# Altium schematic symbol library LAB_Library.schlib: 43 symbols
Pins are listed as number, name and electrical type; pins without a type are passive.

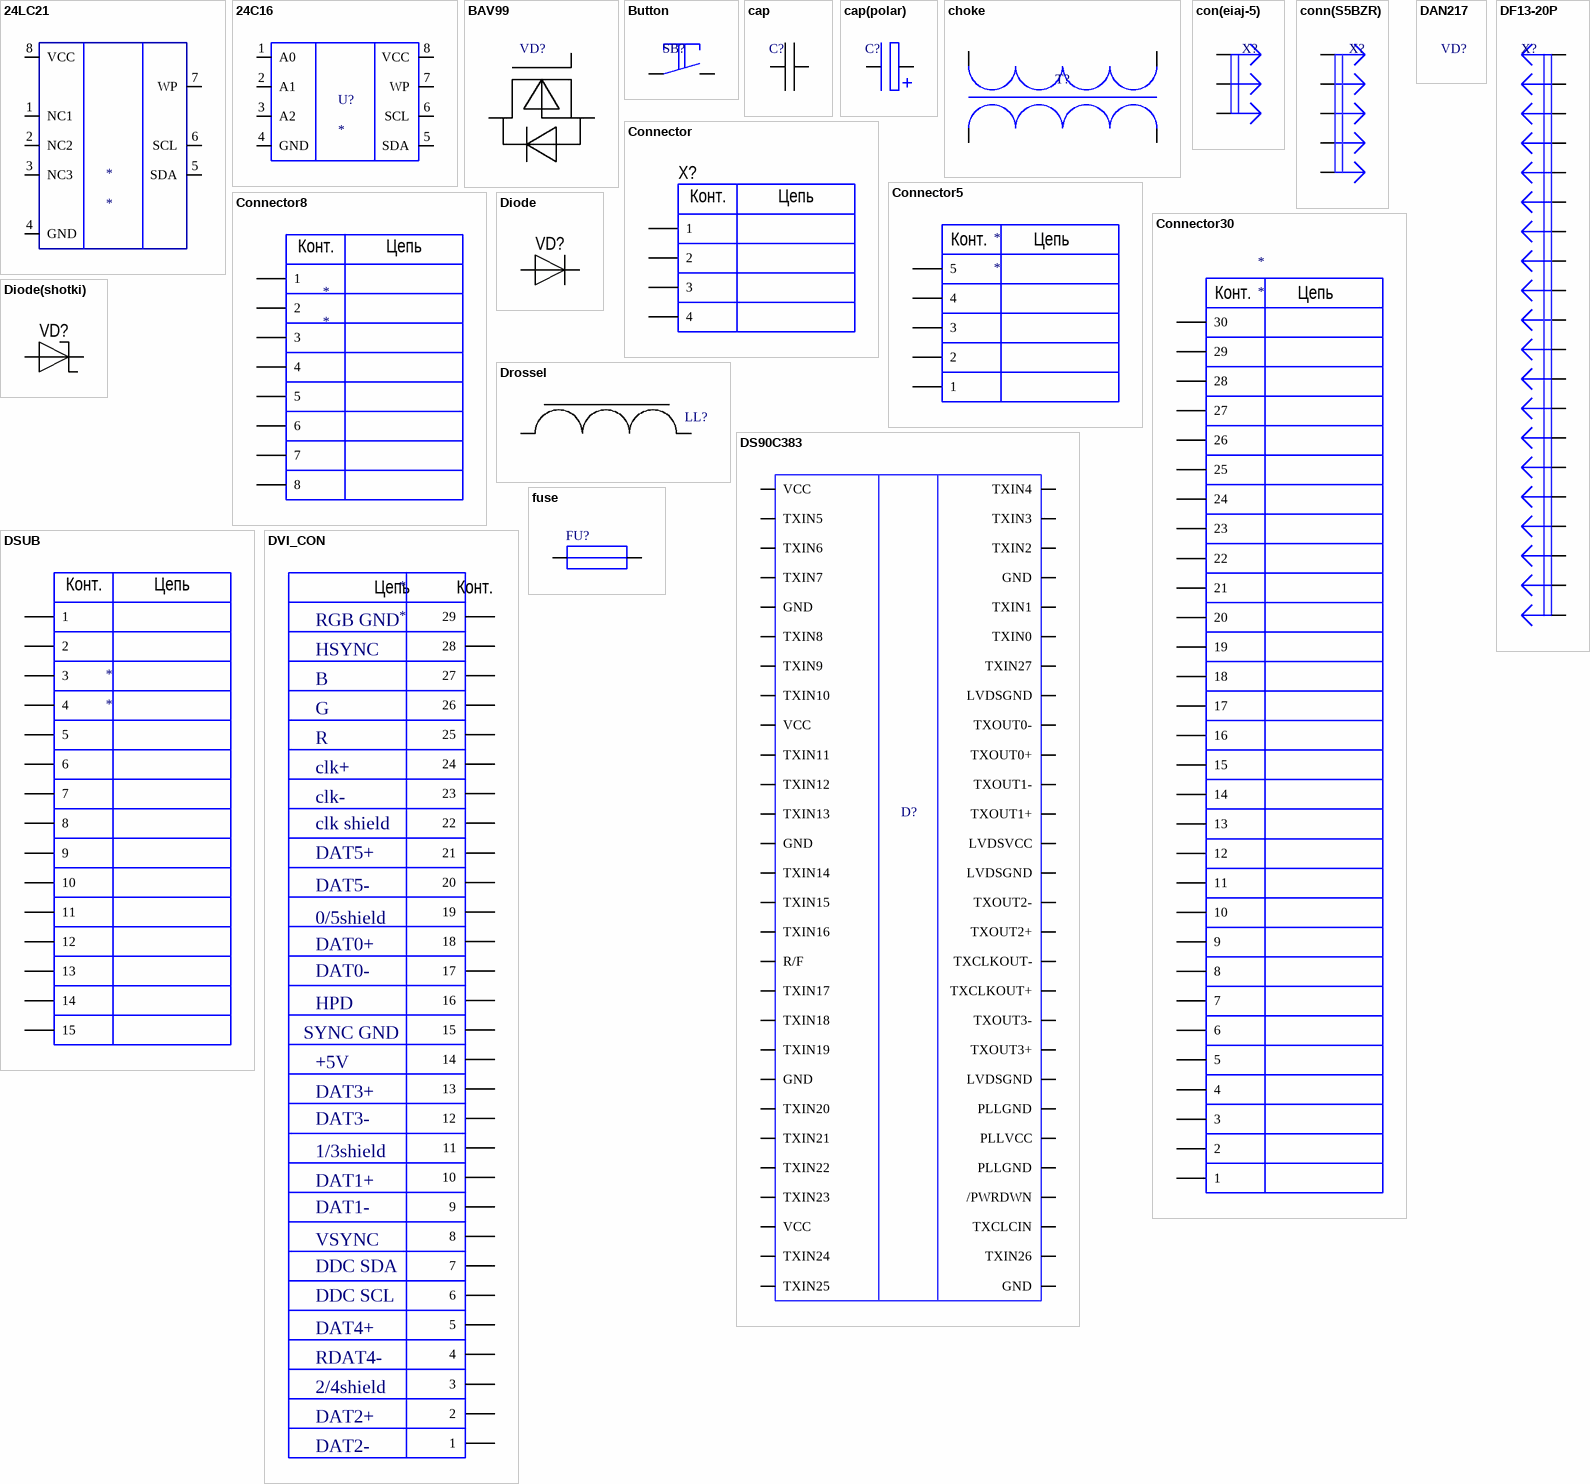
[diagram p0: symbols 24LC21 to fuse]

## 24LC21
designator *
pins: 1 NC1, 2 NC2, 3 NC3, 4 GND, 5 SDA, 6 SCL, 7 WP, 8 VCC

## 24С16
designator U?
pins: 1 A0, 2 A1, 3 A2, 4 GND, 5 SDA, 6 SCL, 7 WP, 8 VCC

## BAV99
designator VD?  (value not drawn)
pins: 1, 2, 3

## Button
designator SB?  (value not drawn)
footprint Button1
pins: 1, 2

## cap
designator C?  (value not drawn)
footprint cap(0603)
footprint cap(0805)1UF
footprint cap(1206)10UF
pins: 1, 2

## cap(polar)
designator C?  (value not drawn)
footprint cap(ELECT-CA100UF)
footprint cap(ELECT-CA220UF)
pins: 1, 2

## choke
designator T?  (value not drawn)
footprint choke(SC-20-D010)
pins: 1, 2, 3, 4

## con(eiaj-5)
designator X?  (value not drawn)
footprint con(eiaj-5)
pins: 1, 2, 3

## conn(S5BZR)
designator X?  (value not drawn)
footprint conn(S5BZR) (Footprint not found)
pins: 1, 2, 3, 4, 5

## Connector
designator X?  (value not drawn)
footprint conn4
pins: 1, 2, 3 (power), 4 (power)
text: Конт.; Цепь

## Connector5
designator *
pins: 1, 2, 3 (power), 4 (power), 5 (power)
text: Конт.; Цепь

## Connector8
designator *
pins: 1, 1 5, 2, 2 6, 3 (power), 3 7 (power), 4 (power), 4 8 (power)
text: Конт.; Цепь

## Connector30
designator *
pins: 1, 2, 3 (power), 4 (power), 5 (power), 6, 7, 8 (power), 9 (power), 10 (power), 11, 12, 13 (power), 14 (power), 15 (power), 16, 17, 18 (power), 19 (power), 20 (power), 21, 22, 23 (power), 24 (power), 25 (power), 26, 27, 28 (power), 29 (power), 30 (power)
text: Конт.; Цепь

## DAN217
designator VD?  (value not drawn)

## DF13-20P
designator X?  (value not drawn)
footprint DF13-20P
pins: 1, 2, 3, 4, 5, 6, 7, 8, 9, 10, 11, 12, 13, 14, 15, 16, 17, 18, 19, 20

## Diode
designator VD?  (value not drawn)
footprint DIODE
footprint DIODE(RLS4148)
pins: 1, 2

## Diode(shotki)
designator VD?  (value not drawn)
footprint Diode(shotki) (Footprint not found)
footprint Diode(shotki SK-24)
pins: 1, 2

## Drossel
designator LL?  (value not drawn)
footprint dros (SODFL, 2-Leads, Body 6,00x13,20mm, IPC Medium Density)
pins: 1, 2

## DS90C383
designator D?  (value not drawn)
footprint DS90C383
pins: 1 VCC, 2 TXIN5, 3 TXIN6, 4 TXIN7, 5 GND, 6 TXIN8, 7 TXIN9, 8 TXIN10, 9 VCC, 10 TXIN11, 11 TXIN12, 12 TXIN13, 13 GND, 14 TXIN14, 15 TXIN15, 16 TXIN16, 17 R/F, 18 TXIN17, 19 TXIN18, 20 TXIN19, 21 GND, 22 TXIN20, 23 TXIN21, 24 TXIN22, 25 TXIN23, 26 VCC, 27 TXIN24, 28 TXIN25, 29 GND, 30 TXIN26, 31 TXCLCIN, 32 /PWRDWN, 33 PLLGND, 34 PLLVCC, 35 PLLGND, 36 LVDSGND, 37 TXOUT3+, 38 TXOUT3-, 39 TXCLKOUT+, 40 TXCLKOUT-, 41 TXOUT2+, 42 TXOUT2-, 43 LVDSGND, 44 LVDSVCC, 45 TXOUT1+, 46 TXOUT1-, 47 TXOUT0+, 48 TXOUT0-, 49 LVDSGND, 50 TXIN27, 51 TXIN0, 52 TXIN1, 53 GND, 54 TXIN2, 55 TXIN3, 56 TXIN4

## DSUB
designator *
pins: 1, 1 5, 1 9, 1 13, 2, 2 6, 2 10, 2 14, 3 (power), 3 7 (power), 3 11 (power), 3 15 (power), 4 (power), 4 8 (power), 4 12 (power)
text: Конт.; Цепь

## DVI_CON
designator *
pins: 1, 2, 3 (power), 4 (power), 5 (power), 6, 7, 8 (power), 9 (power), 10 (power), 11, 12, 13 (power), 14 (power), 15 (power), 16, 17, 18 (power), 19 (power), 20 (power), 21, 22, 23 (power), 24 (power), 25 (power), 26, 27, 28 (power), 29 (power)
text: Цепь; Конт.; RGB GND; HSYNC; B; G; R; clk+; clk-; clk shield; DAT5+; DAT5-; 0/5shield; DAT0+; DAT0-; HPD; SYNC GND; +5V; DAT3+; DAT3-; 1/3shield; DAT1+; DAT1-; VSYNC; DDC SDA; DDC SCL; DAT4+; RDAT4-; 2/4shield; DAT2+; DAT2-

## fuse
designator FU?  (value not drawn)
footprint fuse(5A)
footprint fuse(1.5A)
footprint fuse(2.5A)
pins: 1, 2

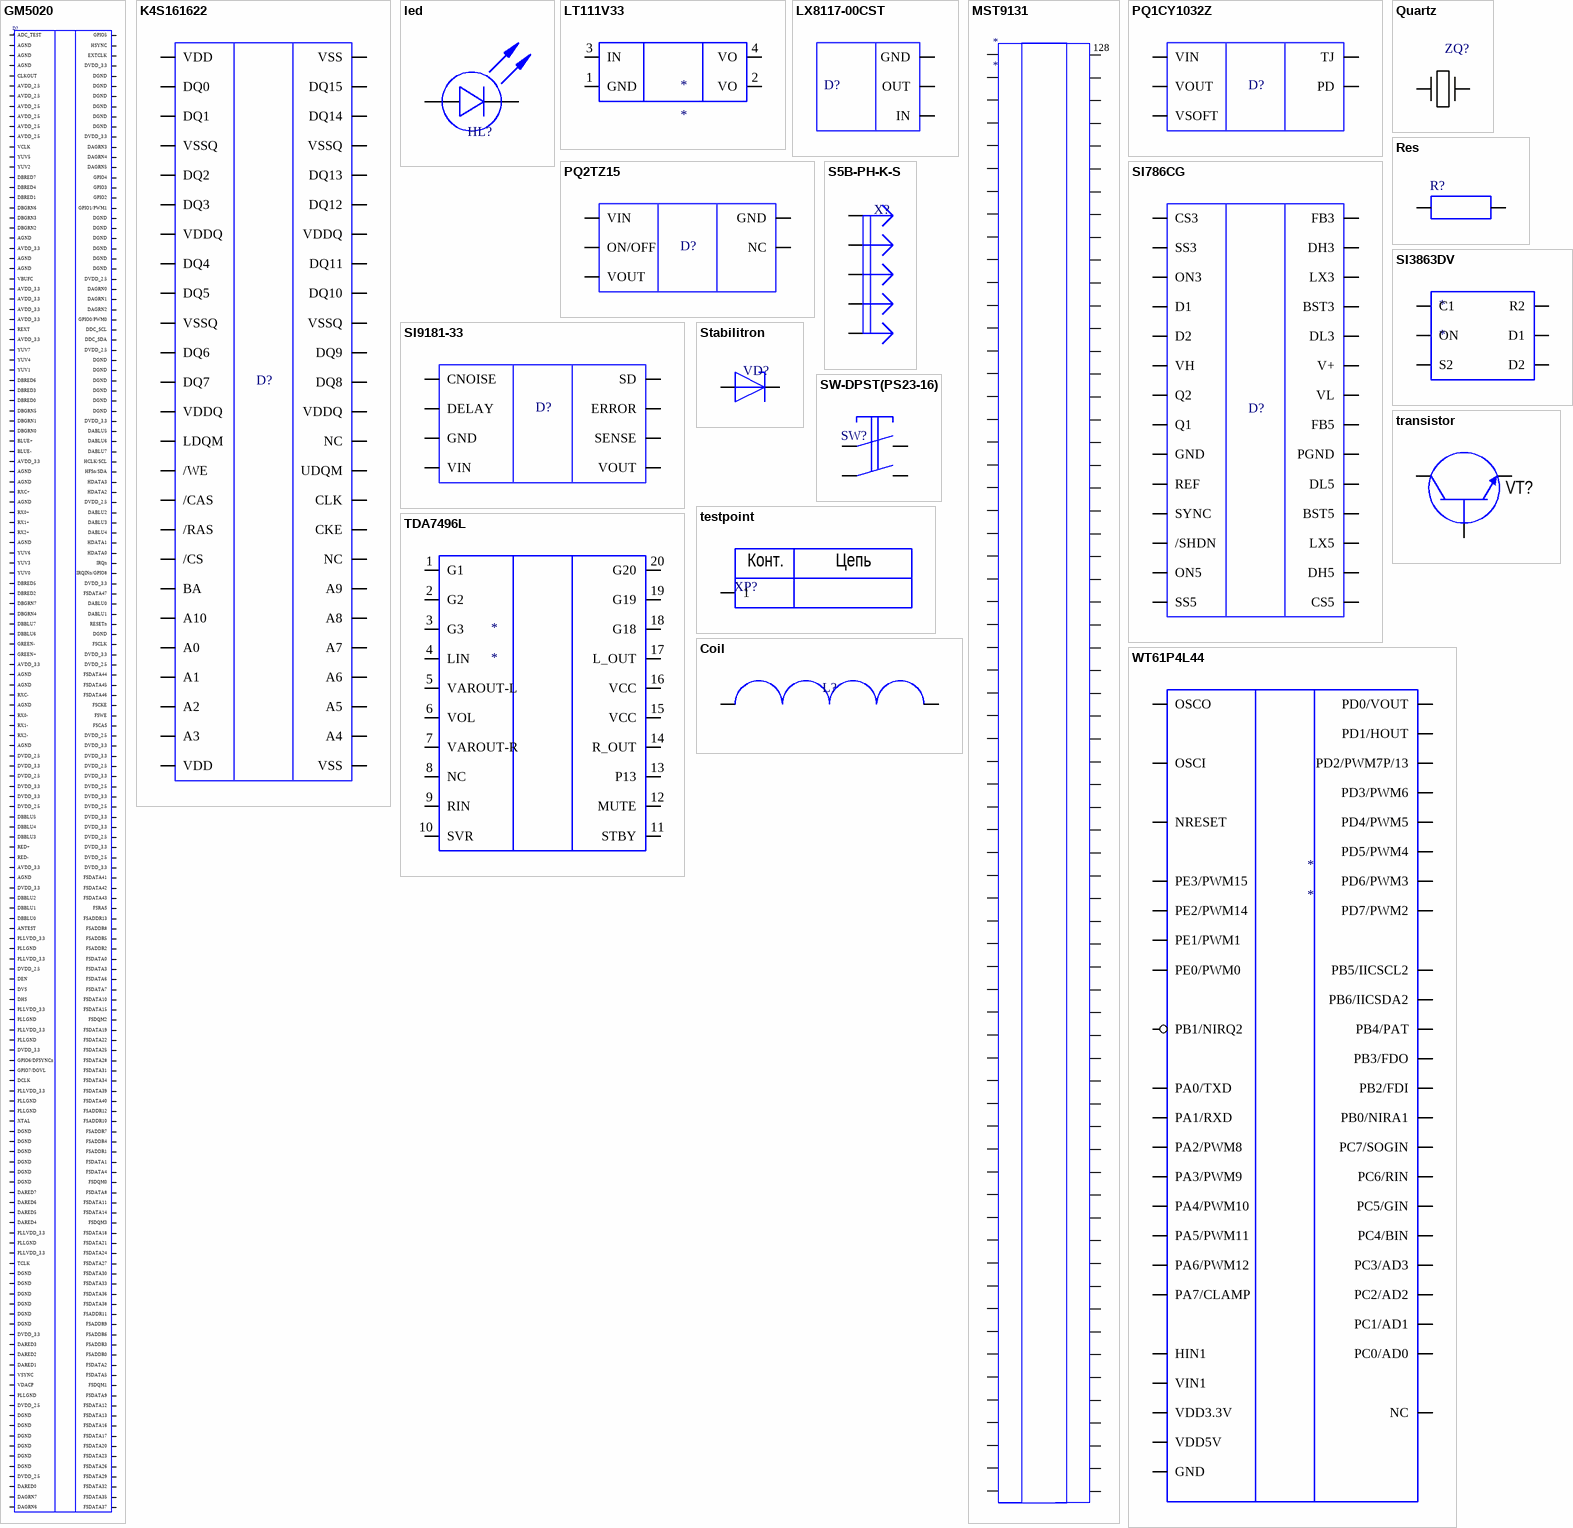
[diagram p1: symbols GM5020 to Сoil]

## GM5020
designator D?
footprint GM5020 (Footprint not found)
pins: A1 ADC_TEST, A2 AGND, A3 AGND, A4 AGND, A5 CLKOUT, A6 AVDD_2.5, A7 AVDD_2.5, A8 AVDD_2.5, A9 AVDD_2.5, A10 AVDD_2.5, A11 AVDD_2.5, A12 VCLK, A13 YUV5, A14 YUV2, A15 DBRED7, A16 DBRED4, A17 DBRED1, A18 DBGRN6, A19 DBGRN3, A20 DBGRN2, B1 AGND, B2 AVDD_3.3, B3 AGND, B4 AGND, B5 VBUFC, B6 AVDD_3.3, B7 AVDD_3.3, B8 AVDD_3.3, B9 AVDD_3.3, B10 REXT, B11 AVDD_3.3, B12 YUV7, B13 YUV4, B14 YUV1, B15 DBRED6, B16 DBRED3, B17 DBRED0, B18 DBGRN5, B19 DBGRN1, B20 DBGRN0, C1 BLUE+, C2 BLUE-, C3 AVDD_3.3, C4 AGND, C5 AGND, C6 RXC+, C7 AGND, C8 RX0+, C9 RX1+, C10 RX2+, C11 AGND, C12 YUV6, C13 YUV3, C14 YUV0, C15 DBRED5, C16 DBRED2, C17 DBGRN7, C18 DBGRN4, C19 DBBLU7, C20 DBBLU6, D1 GREEN-, D2 GREEN+, D3 AVDD_3.3, D4 AGND, D5 AGND, D6 RXC-, D7 AGND, D8 RX0-, D9 RX1-, D10 RX2-, D11 AGND, D12 DVDD_2.5, D13 DVDD_3.3, D14 DVDD_2.5, D15 DVDD_3.3, D16 DVDD_3.3, D17 DVDD_2.5, D18 DBBLU5, D19 DBBLU4, D20 DBBLU3, E1 RED+, E2 RED-, E3 AVDD_3.3, E4 AGND, E17 DVDD_3.3, E18 DBBLU2, E19 DBBLU1, E20 DBBLU0, F1 ANTEST, F2 PLLVDD_3.3, F3 PLLGND, F4 PLLVDD_3.3, F17 DVDD_2.5, F18 DEN, F19 DVS, F20 DHS, G1 PLLVDD_3.3, G2 PLLGND, G3 PLLVDD_3.3, G4 PLLGND, G17 DVDD_3.3, G18 GPIO6/DFSYNCn, G19 GPIO7/DOVL, G20 DCLK, H1 PLLVDD_3.3, H2 PLLGND, H3 PLLGND, H4 XTAL, H8 DGND, H9 DGND, H10 DGND, H11 DGND, H12 DGND, H13 DGND, H17 DARED7, H18 DARED6, H19 DARED5, H20 DARED4, J1 PLLVDD_3.3, J2 PLLGND, J3 PLLVDD_3.3, J4 TCLK, J8 DGND, J9 DGND, J10 DGND, J11 DGND, J12 DGND, J13 DGND, J17 DVDD_3.3, J18 DARED3, J19 DARED2, J20 DARED1, K1 VSYNC, K2 VDACP, K3 PLLGND, K4 DVDD_2.5, K8 DGND, K9 DGND, K10 DGND, K11 DGND, K12 DGND, K13 DGND, K17 DVDD_2.5, K18 DARED0, K19 DAGRN7, K20 DAGRN6, L1 GPIO5, L2 HSYNC, L3 EXTCLK, L4 DVDD_3.3, L8 DGND, L9 DGND, L10 DGND, L11 DGND, L12 DGND, L13 DGND, L17 DVDD_3.3, L18 DAGRN3, L19 DAGRN4, L20 DAGRN5, M1 GPIO4, M2 GPIO3, M3 GPIO2, M4 GPIO1/PWM1, M8 DGND, M9 DGND, M10 DGND, M11 DGND, M12 DGND, M13 DGND, M17 DVDD_2.5, M18 DAGRN0, M19 DAGRN1, M20 DAGRN2, N1 GPIO0/PWM0, N2 DDC_SCL, N3 DDC_SDA, N4 DVDD_2.5, N8 DGND, N9 DGND, N10 DGND, N11 DGND, N12 DGND, N13 DGND, N17 DVDD_3.3, N18 DABLU5, N19 DABLU6, N20 DABLU7, P1 HCLK/SCL, P2 HFSn/SDA, P3 HDATA3, P4 HDATA2, P17 DVDD_2.5, P18 DABLU2, P19 DABLU3, P20 DABLU4, R1 HDATA1, R2 HDATA0, R3 IRQn, R4 IRQINn/GPIO8, R17 DVDD_3.3, R18 FSDATA47, R19 DABLU0, R20 DABLU1, T1 RESETn, T2 DGND, T3 FSCLK, T4 DVDD_3.3, T17 DVDD_2.5, T18 FSDATA44, T19 FSDATA45, T20 FSDATA46, U1 FSCKE, U2 FSWE, U3 FSCAS, U4 DVDD_2.5, U5 DVDD_3.3, U6 DVDD_3.3, U7 DVDD_2.5, U8 DVDD_3.3, U9 DVDD_2.5, U10 DVDD_3.3, U11 DVDD_2.5, U12 DVDD_3.3, U13 DVDD_3.3, U14 DVDD_2.5, U15 DVDD_3.3, U16 DVDD_2.5, U17 DVDD_3.3, U18 FSDATA41, U19 FSDATA42, U20 FSDATA43, V1 FSRAS, V2 FSADDR13, V3 FSADDR8, V4 FSADDR5, V5 FSADDR2, V6 FSDATA0, V7 FSDATA3, V8 FSDATA6, V9 FSDATA7, V10 FSDATA10, V11 FSDATA15, V12 FSDQM2, V13 FSDATA19, V14 FSDATA22, V15 FSDATA25, V16 FSDATA28, V17 FSDATA31, V18 FSDATA34, V19 FSDATA39, V20 FSDATA40, W1 FSADDR12, W2 FSADDR10, W3 FSADDR7, W4 FSADDR4, W5 FSADDR1, W6 FSDATA1, W7 FSDATA4, W8 FSDQM0, W9 FSDATA8, W10 FSDATA11, W11 FSDATA14, W12 FSDQM3, W13 FSDATA18, W14 FSDATA21, W15 FSDATA24, W16 FSDATA27, W17 FSDATA30, W18 FSDATA33, W19 FSDATA36, W20 FSDATA38, Y1 FSADDR11, Y2 FSADDR9, Y3 FSADDR6, Y4 FSADDR3, Y5 FSADDR0, Y6 FSDATA2, Y7 FSDATA5, Y8 FSDQM1, Y9 FSDATA9, Y10 FSDATA12, Y11 FSDATA13, Y12 FSDATA16, Y13 FSDATA17, Y14 FSDATA20, Y15 FSDATA23, Y16 FSDATA26, Y17 FSDATA29, Y18 FSDATA32, Y19 FSDATA35, Y20 FSDATA37

## K4S161622
designator D?  (value not drawn)
footprint K4S161622
pins: 1 VDD, 2 DQ0, 3 DQ1, 4 VSSQ, 5 DQ2, 6 DQ3, 7 VDDQ, 8 DQ4, 9 DQ5, 10 VSSQ, 11 DQ6, 12 DQ7, 13 VDDQ, 14 LDQM, 15 /WE, 16 /CAS, 17 /RAS, 18 /CS, 19 BA, 20 A10, 21 A0, 22 A1, 23 A2, 24 A3, 25 VDD, 26 VSS, 27 A4, 28 A5, 29 A6, 30 A7, 31 A8, 32 A9, 33 NC, 34 CKE, 35 CLK, 36 UDQM, 37 NC, 38 VDDQ, 39 DQ8, 40 DQ9, 41 VSSQ, 42 DQ10, 43 DQ11, 44 VDDQ, 45 DQ12, 46 DQ13, 47 VSSQ, 48 DQ14, 49 DQ15, 50 VSS

## led
designator HL?  (value not drawn)
footprint LED
pins: 1, 2

## LT111V33
designator *
pins: 1 GND, 2 VO, 3 IN, 4 VO

## LX8117-00CST
designator D?
footprint LX8117-00CST (Footprint not found)
pins: 1 GND, 2 OUT, 3 IN

## MST9131
designator *
pins: 1, 2, 3, 4, 5, 6, 7, 8, 9, 10, 11, 12, 13, 14, 15, 16, 17, 18, 19, 20, 21, 22, 23, 24, 25, 26, 27, 28, 29, 30, 31, 32, 33, 34, 35, 36, 37, 38, 39, 40, 41, 42, 43, 44, 45, 46, 47, 48, 49, 50, 51, 52, 53, 54, 55, 56, 57, 58, 59, 60, 61, 62, 63, 64, 65, 66, 67, 68, 69, 70, 71, 72, 73, 74, 75, 76, 77, 78, 79, 80, 81, 82, 83, 84, 85, 86, 87, 88, 89, 90, 91, 92, 93, 94, 95, 96, 97, 98, 99, 100, 101, 102, 103, 104, 105, 106, 107, 108, 109, 110, 111, 112, 113, 114, 115, 116, 117, 118, 119, 120, 121, 122, 123, 124, 125, 126, 127, 128

## PQ1CY1032Z
designator D?
footprint PQ1CY1032Z (Footprint not found)
pins: 1 VIN, 2 VOUT, 3 VSOFT, 4 PD, 5 TJ

## PQ2TZ15
designator D?
footprint PQ2TZ15
pins: 1 VIN, 2 ON/OFF, 3 VOUT, 4 NC, 5 GND

## Quartz
designator ZQ?  (value not drawn)
footprint HC-49/U
footprint 49USMX
pins: 1, 2

## Res
designator R?  (value not drawn)
footprint res(0603)
footprint res(1206)
pins: 1, 2

## S5B-PH-K-S
designator X?  (value not drawn)
footprint S5B-PH-K-S
pins: 1, 2, 3, 4, 5

## SI786CG
designator D?  (value not drawn)
footprint SI786CG (Footprint not found)
pins: 1 CS3, 2 SS3, 3 ON3, 4 D1, 5 D2, 6 VH, 7 Q2, 8 Q1, 9 GND, 10 REF, 11 SYNC, 12 /SHDN, 13 ON5, 14 SS5, 15 CS5, 16 DH5, 17 LX5, 18 BST5, 19 DL5, 20 PGND, 21 FB5, 22 VL, 23 V+, 24 DL3, 25 BST3, 26 LX3, 27 DH3, 28 FB3

## SI3863DV
designator *
pins: 1 R2, 2 D1, 3 D2, 4 S2, 5 ON, 6 C1

## SI9181-33
designator D?  (value not drawn)
footprint SI9181-33
pins: 1 CNOISE, 2 DELAY, 3 GND, 4 VIN, 5 VOUT, 6 SENSE, 7 ERROR, 8 SD

## Stabilitron
designator VD?  (value not drawn)
footprint Stabilitron
pins: 1 A, 2 C

## SW-DPST(PS23-16)
designator SW?  (value not drawn)
footprint SW-DPST(PS23-16)
pins: 1, 2, 3, 4

## TDA7496L
designator *
pins: 1 G1, 2 G2, 3 G3, 4 LIN, 5 VAROUT-L, 6 VOL, 7 VAROUT-R, 8 NC, 9 RIN, 10 SVR, 11 STBY, 12 MUTE, 13 P13, 14 R_OUT, 15 VCC, 16 VCC, 17 L_OUT, 18 G18, 19 G19, 20 G20

## testpoint
designator XP?  (value not drawn)
footprint testpoint
pins: 1
text: Конт.; Цепь

## transistor
designator VT?
footprint Transistor(SST3904)
footprint Transistor(IRF540)
pins: 1, 2, 3

## WT61P4L44
designator *
pins: 1 PE3/PWM15, 2 PE2/PWM14, 3 PE1/PWM1, 4 PE0/PWM0, 5 NRESET, 6 VDD3.3V, 7 VDD5V, 8 GND, 9 OSCO, 10 OSCI, 11 PB6/IICSDA2, 12 PB5/IICSCL2, 13 PB4/PAT, 14 PB3/FDO, 15 PB2/FDI, 16 PB1/NIRQ2, 17 PB0/NIRA1, 18 PC7/SOGIN, 19 PC6/RIN, 20 PC5/GIN, 21 PC4/BIN, 22 PC3/AD3, 23 PC2/AD2, 24 PC1/AD1, 25 PC0/AD0, 26 PA0/TXD, 27 PA1/RXD, 28 PA2/PWM8, 29 PA3/PWM9, 30 PA4/PWM10, 31 PA5/PWM11, 32 PA6/PWM12, 33 PA7/CLAMP, 34 PD0/VOUT, 35 PD1/HOUT, 36 PD2/PWM7P/13, 37 PD3/PWM6, 38 PD4/PWM5, 39 PD5/PWM4, 40 PD6/PWM3, 41 PD7/PWM2, 41 HIN1, 42 VIN1, 44 NC

## Сoil
designator L?  (value not drawn)
footprint coil(SELMAC, STC104B BEAD, 1608K-300R)
footprint coil(3216K-500R)
footprint coil(INDUCTOR0.82-220UH)
footprint cap(0805)1UF
pins: 1, 2